# Altium integrated library con-lemo.IntLib: 62 symbols
Pins are listed as number, name and electrical type; pins without a type are passive.

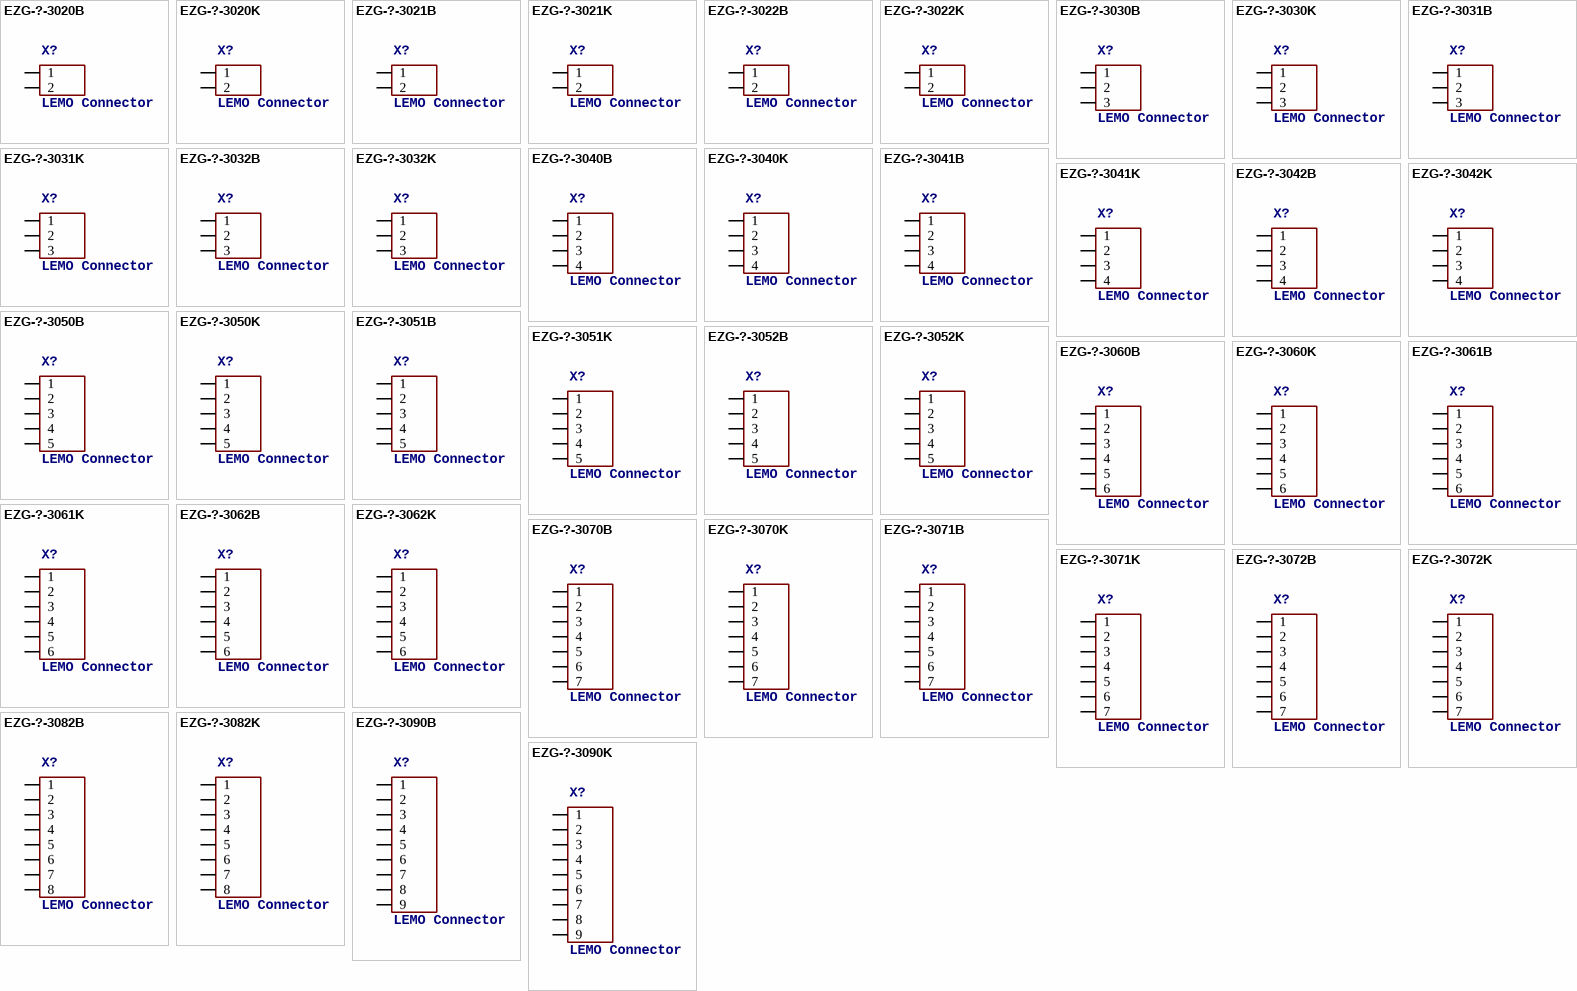
[diagram p0: symbols EZG-?-3020B to EZG-?-3090K]

## EZG-?-3020B
designator X?, comment LEMO Connector   Source: http://www.lemo.com/pdfs/catalog/ROW/German/unipole_multipole.pdf
OC_FARNELL: unknown; OC_NEWARK: unknown
footprint EZG-0B-0K-302
pins: 1, 2

## EZG-?-3020K
designator X?, comment LEMO Connector   Source: http://www.lemo.com/pdfs/catalog/ROW/German/unipole_multipole.pdf
OC_FARNELL: unknown; OC_NEWARK: unknown
footprint EZG-0B-0K-302
pins: 1, 2

## EZG-?-3021B
designator X?, comment LEMO Connector   Source: http://www.lemo.com/pdfs/catalog/ROW/German/unipole_multipole.pdf
OC_FARNELL: unknown; OC_NEWARK: unknown
footprint EZG-1B-1K-302
pins: 1, 2

## EZG-?-3021K
designator X?, comment LEMO Connector   Source: http://www.lemo.com/pdfs/catalog/ROW/German/unipole_multipole.pdf
OC_FARNELL: unknown; OC_NEWARK: unknown
footprint EZG-1B-1K-302
pins: 1, 2

## EZG-?-3022B
designator X?, comment LEMO Connector   Source: http://www.lemo.com/pdfs/catalog/ROW/German/unipole_multipole.pdf
OC_FARNELL: unknown; OC_NEWARK: unknown
footprint EZG-2B-2K-302
pins: 1, 2

## EZG-?-3022K
designator X?, comment LEMO Connector   Source: http://www.lemo.com/pdfs/catalog/ROW/German/unipole_multipole.pdf
OC_FARNELL: unknown; OC_NEWARK: unknown
footprint EZG-2B-2K-302
pins: 1, 2

## EZG-?-3030B
designator X?, comment LEMO Connector   Source: http://www.lemo.com/pdfs/catalog/ROW/German/unipole_multipole.pdf
OC_FARNELL: unknown; OC_NEWARK: unknown
footprint EZG-0B-0K-303
pins: 1, 2, 3

## EZG-?-3030K
designator X?, comment LEMO Connector   Source: http://www.lemo.com/pdfs/catalog/ROW/German/unipole_multipole.pdf
OC_FARNELL: unknown; OC_NEWARK: unknown
footprint EZG-0B-0K-303
pins: 1, 2, 3

## EZG-?-3031B
designator X?, comment LEMO Connector   Source: http://www.lemo.com/pdfs/catalog/ROW/German/unipole_multipole.pdf
OC_FARNELL: unknown; OC_NEWARK: unknown
footprint EZG-1B-1K-303
pins: 1, 2, 3

## EZG-?-3031K
designator X?, comment LEMO Connector   Source: http://www.lemo.com/pdfs/catalog/ROW/German/unipole_multipole.pdf
OC_FARNELL: unknown; OC_NEWARK: unknown
footprint EZG-1B-1K-303
pins: 1, 2, 3

## EZG-?-3032B
designator X?, comment LEMO Connector   Source: http://www.lemo.com/pdfs/catalog/ROW/German/unipole_multipole.pdf
OC_FARNELL: unknown; OC_NEWARK: unknown
footprint EZG-2B-2K-303
pins: 1, 2, 3

## EZG-?-3032K
designator X?, comment LEMO Connector   Source: http://www.lemo.com/pdfs/catalog/ROW/German/unipole_multipole.pdf
OC_FARNELL: unknown; OC_NEWARK: unknown
footprint EZG-2B-2K-303
pins: 1, 2, 3

## EZG-?-3040B
designator X?, comment LEMO Connector   Source: http://www.lemo.com/pdfs/catalog/ROW/German/unipole_multipole.pdf
OC_FARNELL: unknown; OC_NEWARK: unknown
footprint EZG-0B-0K-304
pins: 1, 2, 3, 4

## EZG-?-3040K
designator X?, comment LEMO Connector   Source: http://www.lemo.com/pdfs/catalog/ROW/German/unipole_multipole.pdf
OC_FARNELL: unknown; OC_NEWARK: unknown
footprint EZG-0B-0K-304
pins: 1, 2, 3, 4

## EZG-?-3041B
designator X?, comment LEMO Connector   Source: http://www.lemo.com/pdfs/catalog/ROW/German/unipole_multipole.pdf
OC_FARNELL: unknown; OC_NEWARK: unknown
footprint EZG-1B-1K-304
pins: 1, 2, 3, 4

## EZG-?-3041K
designator X?, comment LEMO Connector   Source: http://www.lemo.com/pdfs/catalog/ROW/German/unipole_multipole.pdf
OC_FARNELL: unknown; OC_NEWARK: unknown
footprint EZG-1B-1K-304
pins: 1, 2, 3, 4

## EZG-?-3042B
designator X?, comment LEMO Connector   Source: http://www.lemo.com/pdfs/catalog/ROW/German/unipole_multipole.pdf
OC_FARNELL: unknown; OC_NEWARK: unknown
footprint EZG-2B-2K-304
pins: 1, 2, 3, 4

## EZG-?-3042K
designator X?, comment LEMO Connector   Source: http://www.lemo.com/pdfs/catalog/ROW/German/unipole_multipole.pdf
OC_FARNELL: unknown; OC_NEWARK: unknown
footprint EZG-2B-2K-304
pins: 1, 2, 3, 4

## EZG-?-3050B
designator X?, comment LEMO Connector   Source: http://www.lemo.com/pdfs/catalog/ROW/German/unipole_multipole.pdf
OC_FARNELL: unknown; OC_NEWARK: unknown
footprint EZG-0B-0K-305
pins: 1, 2, 3, 4, 5

## EZG-?-3050K
designator X?, comment LEMO Connector   Source: http://www.lemo.com/pdfs/catalog/ROW/German/unipole_multipole.pdf
OC_FARNELL: unknown; OC_NEWARK: unknown
footprint EZG-0B-0K-305
pins: 1, 2, 3, 4, 5

## EZG-?-3051B
designator X?, comment LEMO Connector   Source: http://www.lemo.com/pdfs/catalog/ROW/German/unipole_multipole.pdf
OC_FARNELL: unknown; OC_NEWARK: unknown
footprint EZG-1B-1K-305
pins: 1, 2, 3, 4, 5

## EZG-?-3051K
designator X?, comment LEMO Connector   Source: http://www.lemo.com/pdfs/catalog/ROW/German/unipole_multipole.pdf
OC_FARNELL: unknown; OC_NEWARK: unknown
footprint EZG-1B-1K-305
pins: 1, 2, 3, 4, 5

## EZG-?-3052B
designator X?, comment LEMO Connector   Source: http://www.lemo.com/pdfs/catalog/ROW/German/unipole_multipole.pdf
OC_FARNELL: unknown; OC_NEWARK: unknown
footprint EZG-2B-2K-305
pins: 1, 2, 3, 4, 5

## EZG-?-3052K
designator X?, comment LEMO Connector   Source: http://www.lemo.com/pdfs/catalog/ROW/German/unipole_multipole.pdf
OC_FARNELL: unknown; OC_NEWARK: unknown
footprint EZG-2B-2K-305
pins: 1, 2, 3, 4, 5

## EZG-?-3060B
designator X?, comment LEMO Connector   Source: http://www.lemo.com/pdfs/catalog/ROW/German/unipole_multipole.pdf
OC_FARNELL: unknown; OC_NEWARK: unknown
footprint EZG-0B-0K-306
pins: 1, 2, 3, 4, 5, 6

## EZG-?-3060K
designator X?, comment LEMO Connector   Source: http://www.lemo.com/pdfs/catalog/ROW/German/unipole_multipole.pdf
OC_FARNELL: unknown; OC_NEWARK: unknown
footprint EZG-0B-0K-306
pins: 1, 2, 3, 4, 5, 6

## EZG-?-3061B
designator X?, comment LEMO Connector   Source: http://www.lemo.com/pdfs/catalog/ROW/German/unipole_multipole.pdf
OC_FARNELL: unknown; OC_NEWARK: unknown
footprint EZG-1B-1K-306
pins: 1, 2, 3, 4, 5, 6

## EZG-?-3061K
designator X?, comment LEMO Connector   Source: http://www.lemo.com/pdfs/catalog/ROW/German/unipole_multipole.pdf
OC_FARNELL: unknown; OC_NEWARK: unknown
footprint EZG-1B-1K-306
pins: 1, 2, 3, 4, 5, 6

## EZG-?-3062B
designator X?, comment LEMO Connector   Source: http://www.lemo.com/pdfs/catalog/ROW/German/unipole_multipole.pdf
OC_FARNELL: unknown; OC_NEWARK: unknown
footprint EZG-2B-2K-306
pins: 1, 2, 3, 4, 5, 6

## EZG-?-3062K
designator X?, comment LEMO Connector   Source: http://www.lemo.com/pdfs/catalog/ROW/German/unipole_multipole.pdf
OC_FARNELL: unknown; OC_NEWARK: unknown
footprint EZG-2B-2K-306
pins: 1, 2, 3, 4, 5, 6

## EZG-?-3070B
designator X?, comment LEMO Connector   Source: http://www.lemo.com/pdfs/catalog/ROW/German/unipole_multipole.pdf
OC_FARNELL: unknown; OC_NEWARK: unknown
footprint EZG-0B-0K-307
pins: 1, 2, 3, 4, 5, 6, 7

## EZG-?-3070K
designator X?, comment LEMO Connector   Source: http://www.lemo.com/pdfs/catalog/ROW/German/unipole_multipole.pdf
OC_FARNELL: unknown; OC_NEWARK: unknown
footprint EZG-0B-0K-307
pins: 1, 2, 3, 4, 5, 6, 7

## EZG-?-3071B
designator X?, comment LEMO Connector   Source: http://www.lemo.com/pdfs/catalog/ROW/German/unipole_multipole.pdf
OC_FARNELL: unknown; OC_NEWARK: unknown
footprint EZG-1B-1K-307
pins: 1, 2, 3, 4, 5, 6, 7

## EZG-?-3071K
designator X?, comment LEMO Connector   Source: http://www.lemo.com/pdfs/catalog/ROW/German/unipole_multipole.pdf
OC_FARNELL: unknown; OC_NEWARK: unknown
footprint EZG-1B-1K-307
pins: 1, 2, 3, 4, 5, 6, 7

## EZG-?-3072B
designator X?, comment LEMO Connector   Source: http://www.lemo.com/pdfs/catalog/ROW/German/unipole_multipole.pdf
OC_FARNELL: unknown; OC_NEWARK: unknown
footprint EZG-2B-2K-307
pins: 1, 2, 3, 4, 5, 6, 7

## EZG-?-3072K
designator X?, comment LEMO Connector   Source: http://www.lemo.com/pdfs/catalog/ROW/German/unipole_multipole.pdf
OC_FARNELL: unknown; OC_NEWARK: unknown
footprint EZG-2B-2K-307
pins: 1, 2, 3, 4, 5, 6, 7

## EZG-?-3082B
designator X?, comment LEMO Connector   Source: http://www.lemo.com/pdfs/catalog/ROW/German/unipole_multipole.pdf
OC_FARNELL: unknown; OC_NEWARK: unknown
footprint EZG-2B-2K-308
pins: 1, 2, 3, 4, 5, 6, 7, 8

## EZG-?-3082K
designator X?, comment LEMO Connector   Source: http://www.lemo.com/pdfs/catalog/ROW/German/unipole_multipole.pdf
OC_FARNELL: unknown; OC_NEWARK: unknown
footprint EZG-2B-2K-308
pins: 1, 2, 3, 4, 5, 6, 7, 8

## EZG-?-3090B
designator X?, comment LEMO Connector   Source: http://www.lemo.com/pdfs/catalog/ROW/German/unipole_multipole.pdf
OC_FARNELL: unknown; OC_NEWARK: unknown
footprint EZG-0B-0K-309
pins: 1, 2, 3, 4, 5, 6, 7, 8, 9

## EZG-?-3090K
designator X?, comment LEMO Connector   Source: http://www.lemo.com/pdfs/catalog/ROW/German/unipole_multipole.pdf
OC_FARNELL: unknown; OC_NEWARK: unknown
footprint EZG-0B-0K-309
pins: 1, 2, 3, 4, 5, 6, 7, 8, 9

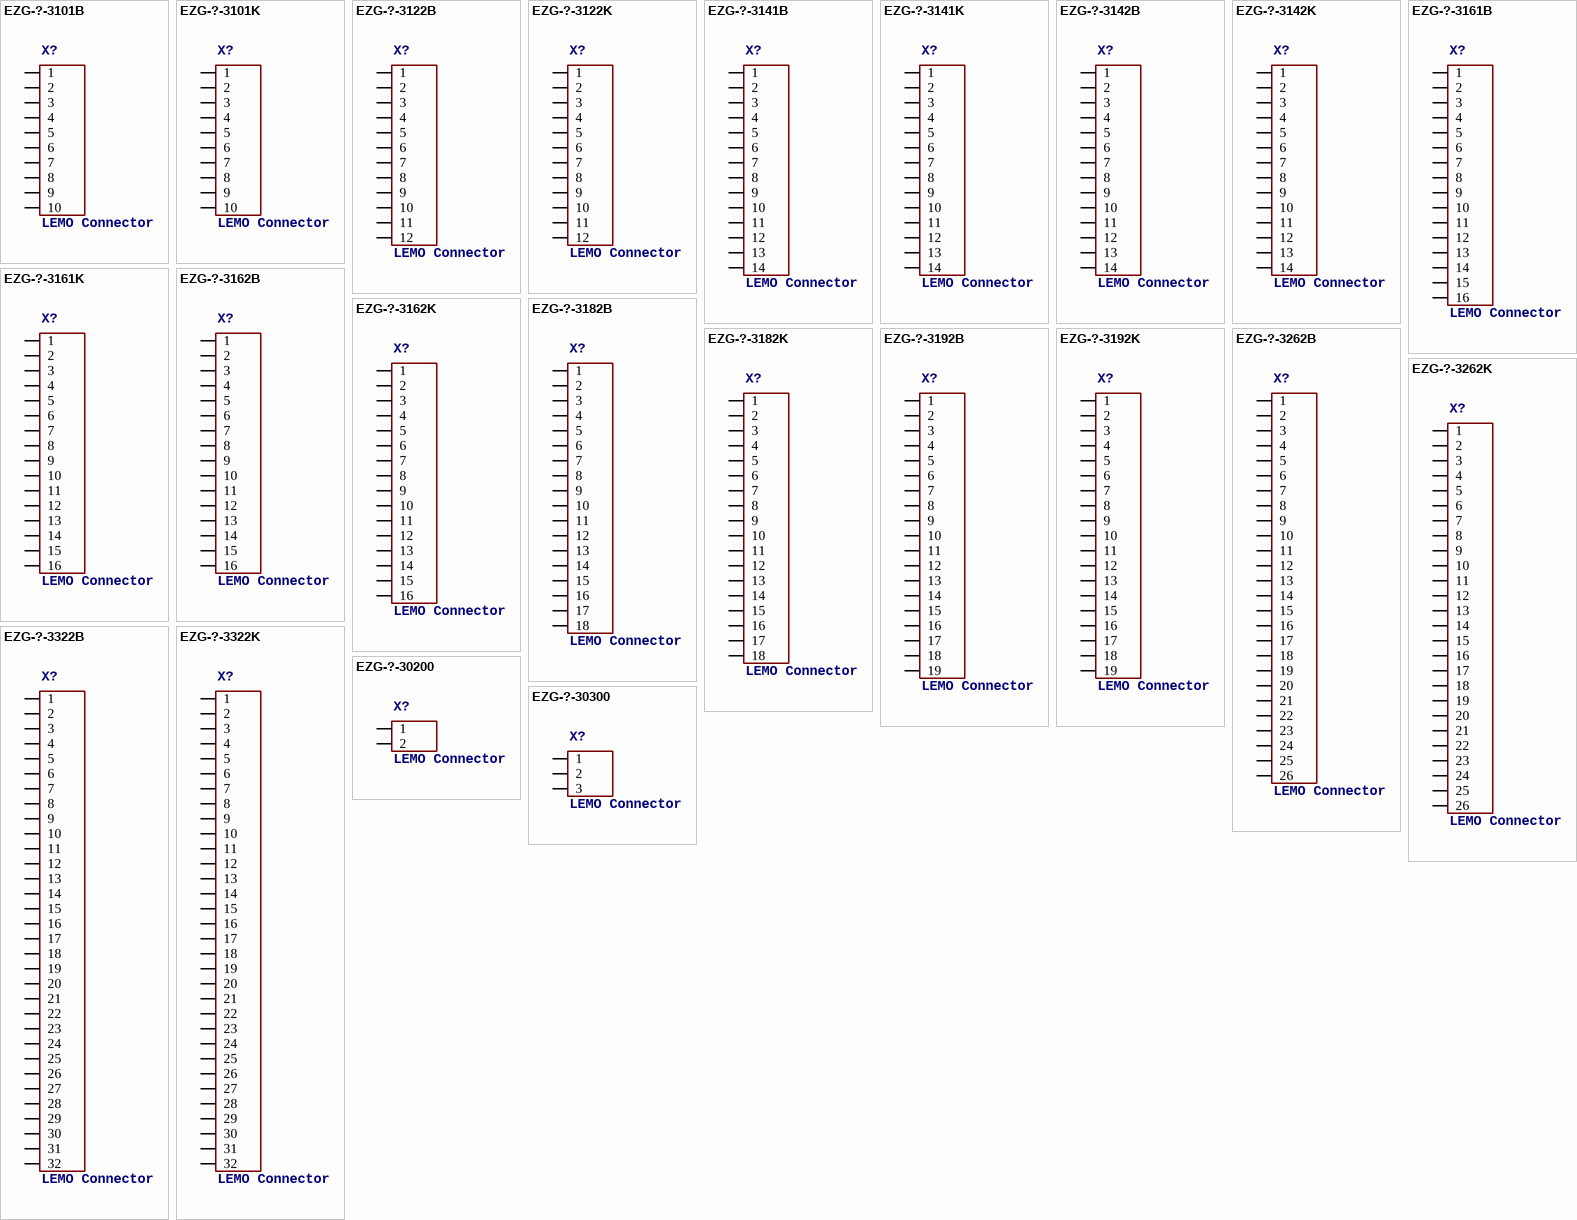
[diagram p1: symbols EZG-?-3101B to EZG-?-30300]

## EZG-?-3101B
designator X?, comment LEMO Connector   Source: http://www.lemo.com/pdfs/catalog/ROW/German/unipole_multipole.pdf
OC_FARNELL: unknown; OC_NEWARK: unknown
footprint EZG-1B-1K-310
pins: 1, 2, 3, 4, 5, 6, 7, 8, 9, 10

## EZG-?-3101K
designator X?, comment LEMO Connector   Source: http://www.lemo.com/pdfs/catalog/ROW/German/unipole_multipole.pdf
OC_FARNELL: unknown; OC_NEWARK: unknown
footprint EZG-1B-1K-310
pins: 1, 2, 3, 4, 5, 6, 7, 8, 9, 10

## EZG-?-3122B
designator X?, comment LEMO Connector   Source: http://www.lemo.com/pdfs/catalog/ROW/German/unipole_multipole.pdf
OC_FARNELL: unknown; OC_NEWARK: unknown
footprint EZG-2B-2K-312
pins: 1, 2, 3, 4, 5, 6, 7, 8, 9, 10, 11, 12

## EZG-?-3122K
designator X?, comment LEMO Connector   Source: http://www.lemo.com/pdfs/catalog/ROW/German/unipole_multipole.pdf
OC_FARNELL: unknown; OC_NEWARK: unknown
footprint EZG-2B-2K-312
pins: 1, 2, 3, 4, 5, 6, 7, 8, 9, 10, 11, 12

## EZG-?-3141B
designator X?, comment LEMO Connector   Source: http://www.lemo.com/pdfs/catalog/ROW/German/unipole_multipole.pdf
OC_FARNELL: unknown; OC_NEWARK: unknown
footprint EZG-1B-1K-314
pins: 1, 2, 3, 4, 5, 6, 7, 8, 9, 10, 11, 12, 13, 14

## EZG-?-3141K
designator X?, comment LEMO Connector   Source: http://www.lemo.com/pdfs/catalog/ROW/German/unipole_multipole.pdf
OC_FARNELL: unknown; OC_NEWARK: unknown
footprint EZG-1B-1K-314
pins: 1, 2, 3, 4, 5, 6, 7, 8, 9, 10, 11, 12, 13, 14

## EZG-?-3142B
designator X?, comment LEMO Connector   Source: http://www.lemo.com/pdfs/catalog/ROW/German/unipole_multipole.pdf
OC_FARNELL: unknown; OC_NEWARK: unknown
footprint EZG-2B-2K-314
pins: 1, 2, 3, 4, 5, 6, 7, 8, 9, 10, 11, 12, 13, 14

## EZG-?-3142K
designator X?, comment LEMO Connector   Source: http://www.lemo.com/pdfs/catalog/ROW/German/unipole_multipole.pdf
OC_FARNELL: unknown; OC_NEWARK: unknown
footprint EZG-2B-2K-314
pins: 1, 2, 3, 4, 5, 6, 7, 8, 9, 10, 11, 12, 13, 14

## EZG-?-3161B
designator X?, comment LEMO Connector   Source: http://www.lemo.com/pdfs/catalog/ROW/German/unipole_multipole.pdf
OC_FARNELL: unknown; OC_NEWARK: unknown
footprint EZG-1B-1K-316
pins: 1, 2, 3, 4, 5, 6, 7, 8, 9, 10, 11, 12, 13, 14, 15, 16

## EZG-?-3161K
designator X?, comment LEMO Connector   Source: http://www.lemo.com/pdfs/catalog/ROW/German/unipole_multipole.pdf
OC_FARNELL: unknown; OC_NEWARK: unknown
footprint EZG-1B-1K-316
pins: 1, 2, 3, 4, 5, 6, 7, 8, 9, 10, 11, 12, 13, 14, 15, 16

## EZG-?-3162B
designator X?, comment LEMO Connector   Source: http://www.lemo.com/pdfs/catalog/ROW/German/unipole_multipole.pdf
OC_FARNELL: unknown; OC_NEWARK: unknown
footprint EZG-2B-2K-316
pins: 1, 2, 3, 4, 5, 6, 7, 8, 9, 10, 11, 12, 13, 14, 15, 16

## EZG-?-3162K
designator X?, comment LEMO Connector   Source: http://www.lemo.com/pdfs/catalog/ROW/German/unipole_multipole.pdf
OC_FARNELL: unknown; OC_NEWARK: unknown
footprint EZG-2B-2K-316
pins: 1, 2, 3, 4, 5, 6, 7, 8, 9, 10, 11, 12, 13, 14, 15, 16

## EZG-?-3182B
designator X?, comment LEMO Connector   Source: http://www.lemo.com/pdfs/catalog/ROW/German/unipole_multipole.pdf
OC_FARNELL: unknown; OC_NEWARK: unknown
footprint EZG-2B-2K-318
pins: 1, 2, 3, 4, 5, 6, 7, 8, 9, 10, 11, 12, 13, 14, 15, 16, 17, 18

## EZG-?-3182K
designator X?, comment LEMO Connector   Source: http://www.lemo.com/pdfs/catalog/ROW/German/unipole_multipole.pdf
OC_FARNELL: unknown; OC_NEWARK: unknown
footprint EZG-2B-2K-318
pins: 1, 2, 3, 4, 5, 6, 7, 8, 9, 10, 11, 12, 13, 14, 15, 16, 17, 18

## EZG-?-3192B
designator X?, comment LEMO Connector   Source: http://www.lemo.com/pdfs/catalog/ROW/German/unipole_multipole.pdf
OC_FARNELL: unknown; OC_NEWARK: unknown
footprint EZG-2B-2K-319
pins: 1, 2, 3, 4, 5, 6, 7, 8, 9, 10, 11, 12, 13, 14, 15, 16, 17, 18, 19

## EZG-?-3192K
designator X?, comment LEMO Connector   Source: http://www.lemo.com/pdfs/catalog/ROW/German/unipole_multipole.pdf
OC_FARNELL: unknown; OC_NEWARK: unknown
footprint EZG-2B-2K-319
pins: 1, 2, 3, 4, 5, 6, 7, 8, 9, 10, 11, 12, 13, 14, 15, 16, 17, 18, 19

## EZG-?-3262B
designator X?, comment LEMO Connector   Source: http://www.lemo.com/pdfs/catalog/ROW/German/unipole_multipole.pdf
OC_FARNELL: unknown; OC_NEWARK: unknown
footprint EZG-2B-2K-326
pins: 1, 2, 3, 4, 5, 6, 7, 8, 9, 10, 11, 12, 13, 14, 15, 16, 17, 18, 19, 20, 21, 22, 23, 24, 25, 26

## EZG-?-3262K
designator X?, comment LEMO Connector   Source: http://www.lemo.com/pdfs/catalog/ROW/German/unipole_multipole.pdf
OC_FARNELL: unknown; OC_NEWARK: unknown
footprint EZG-2B-2K-326
pins: 1, 2, 3, 4, 5, 6, 7, 8, 9, 10, 11, 12, 13, 14, 15, 16, 17, 18, 19, 20, 21, 22, 23, 24, 25, 26

## EZG-?-3322B
designator X?, comment LEMO Connector   Source: http://www.lemo.com/pdfs/catalog/ROW/German/unipole_multipole.pdf
OC_FARNELL: unknown; OC_NEWARK: unknown
footprint EZG-2B-2K-332
pins: 1, 2, 3, 4, 5, 6, 7, 8, 9, 10, 11, 12, 13, 14, 15, 16, 17, 18, 19, 20, 21, 22, 23, 24, 25, 26, 27, 28, 29, 30, 31, 32

## EZG-?-3322K
designator X?, comment LEMO Connector   Source: http://www.lemo.com/pdfs/catalog/ROW/German/unipole_multipole.pdf
OC_FARNELL: unknown; OC_NEWARK: unknown
footprint EZG-2B-2K-332
pins: 1, 2, 3, 4, 5, 6, 7, 8, 9, 10, 11, 12, 13, 14, 15, 16, 17, 18, 19, 20, 21, 22, 23, 24, 25, 26, 27, 28, 29, 30, 31, 32

## EZG-?-30200
designator X?, comment LEMO Connector   Source: http://www.lemo.com/pdfs/catalog/ROW/German/unipole_multipole.pdf
OC_FARNELL: unknown; OC_NEWARK: unknown
footprint EZG-00-302
pins: 1, 2

## EZG-?-30300
designator X?, comment LEMO Connector   Source: http://www.lemo.com/pdfs/catalog/ROW/German/unipole_multipole.pdf
OC_FARNELL: unknown; OC_NEWARK: unknown
footprint EZG-00-303
pins: 1, 2, 3